# EAGLE library part JST-16PS-JED (library node4)
Connector 16 pin male right angle, JED series, JST corp.
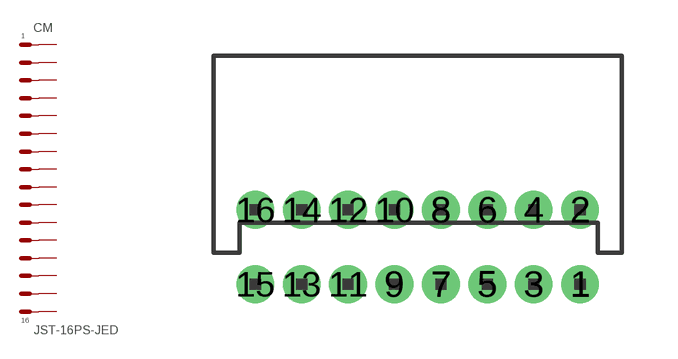
[diagram p7: symbol with the pads of JST-16PS-JED; footprint JST-16PS-JED]

Designator prefix CM

## JST-16PS-JED  [JST-16PS-JED]
1  1  pas
2  2  pas
3  3  pas
4  4  pas
5  5  pas
6  6  pas
7  7  pas
8  8  pas
9  9  pas
10  10  pas
11  11  pas
12  12  pas
13  13  pas
14  14  pas
15  15  pas
16  16  pas

## Footprint JST-16PS-JED (pad centres in mm)
JST-JED 16 pin male right angle
drill 0.508 pad 1.016 round: 1 4.375,-2; 2 4.375,0; 3 3.125,-2; 4 3.125,0; 5 1.875,-2; 6 1.875,0; 7 0.625,-2; 8 0.625,0; 9 -0.625,-2; 10 -0.625,0; 11 -1.875,-2; 12 -1.875,0; 13 -3.125,-2; 14 -3.125,0; 15 -4.375,-2; 16 -4.375,0